# Altium footprint library PCB Library.PcbLib: 18 footprints (part 2 of 2)
Each footprint in its own frame and in the unit in brackets; x right, y up, seen from the top. Pads: shape width x height; smd on the part's side, far side on the other; paste and mask are expansions set on the pad; w line width, h text height; cw(c..) or ccw(c..) is an arc to the next point about the centre after c.
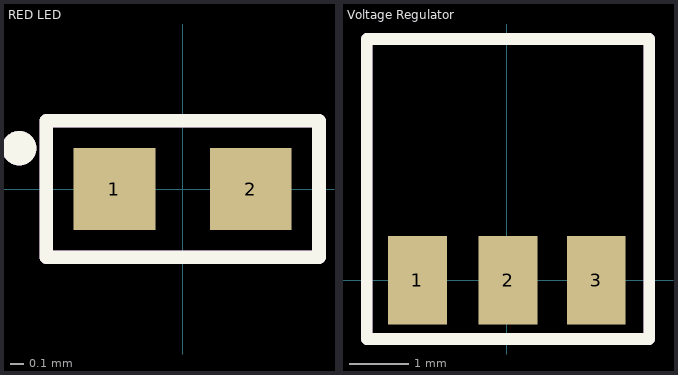
[diagram p1: the footprints below, top view; thin cyan lines are the x and y axes]

## RED LED [mm]
pads (2):
  rect 0.6x0.6 smd: 1(-0.5,0) 2(0.5,0)
Top Overlay:
  circle w0.254: c-1.2,0.3 r0
  lines w0.1: -1,-0.5 -1,0.5 1,0.5 1,-0.5 -1,-0.5
Assemble Layer:
  circle w0.254: c-1.2,0.3 r0
  lines w0.1: -1,-0.5 -1,0.5 1,0.5 1,-0.5 -1,-0.5
  text "'.Designator'" at -0.9,-0.233 h0.5
3D body "RED LED.stp": height 0.41, standoff 0.01, extent -0.5,-0.25 0.5,0.25

## Voltage Regulator [mm]
pads (3):
  rect 1x1.5 smd: 1(-1.52,0) 2(0.02,0) 3(1.52,0)
Top Overlay:
  lines w0.2: -2.38,-1 -2.38,4.1 2.42,4.1 2.42,-1 -2.38,-1
Assemble Layer:
  lines w0.2: -2.38,-1 -2.38,4.1 2.42,4.1 2.42,-1 -2.38,-1
  text "'.Designator'" at -2.8,1.367 h0.5
3D body "5V Voltage Regulator.STEP": height 1.61, standoff 0.01, extent -2.24,-0.198 2.26,3.898